# Altium footprint library ee_453_Schulz.PcbLib: 73 footprints (part 3 of 5)
Each footprint in its own frame and in the unit in brackets; x right, y up, seen from the top. Pads: shape width x height; smd on the part's side, far side on the other; paste and mask are expansions set on the pad; w line width, h text height; cw(c..) or ccw(c..) is an arc to the next point about the centre after c.
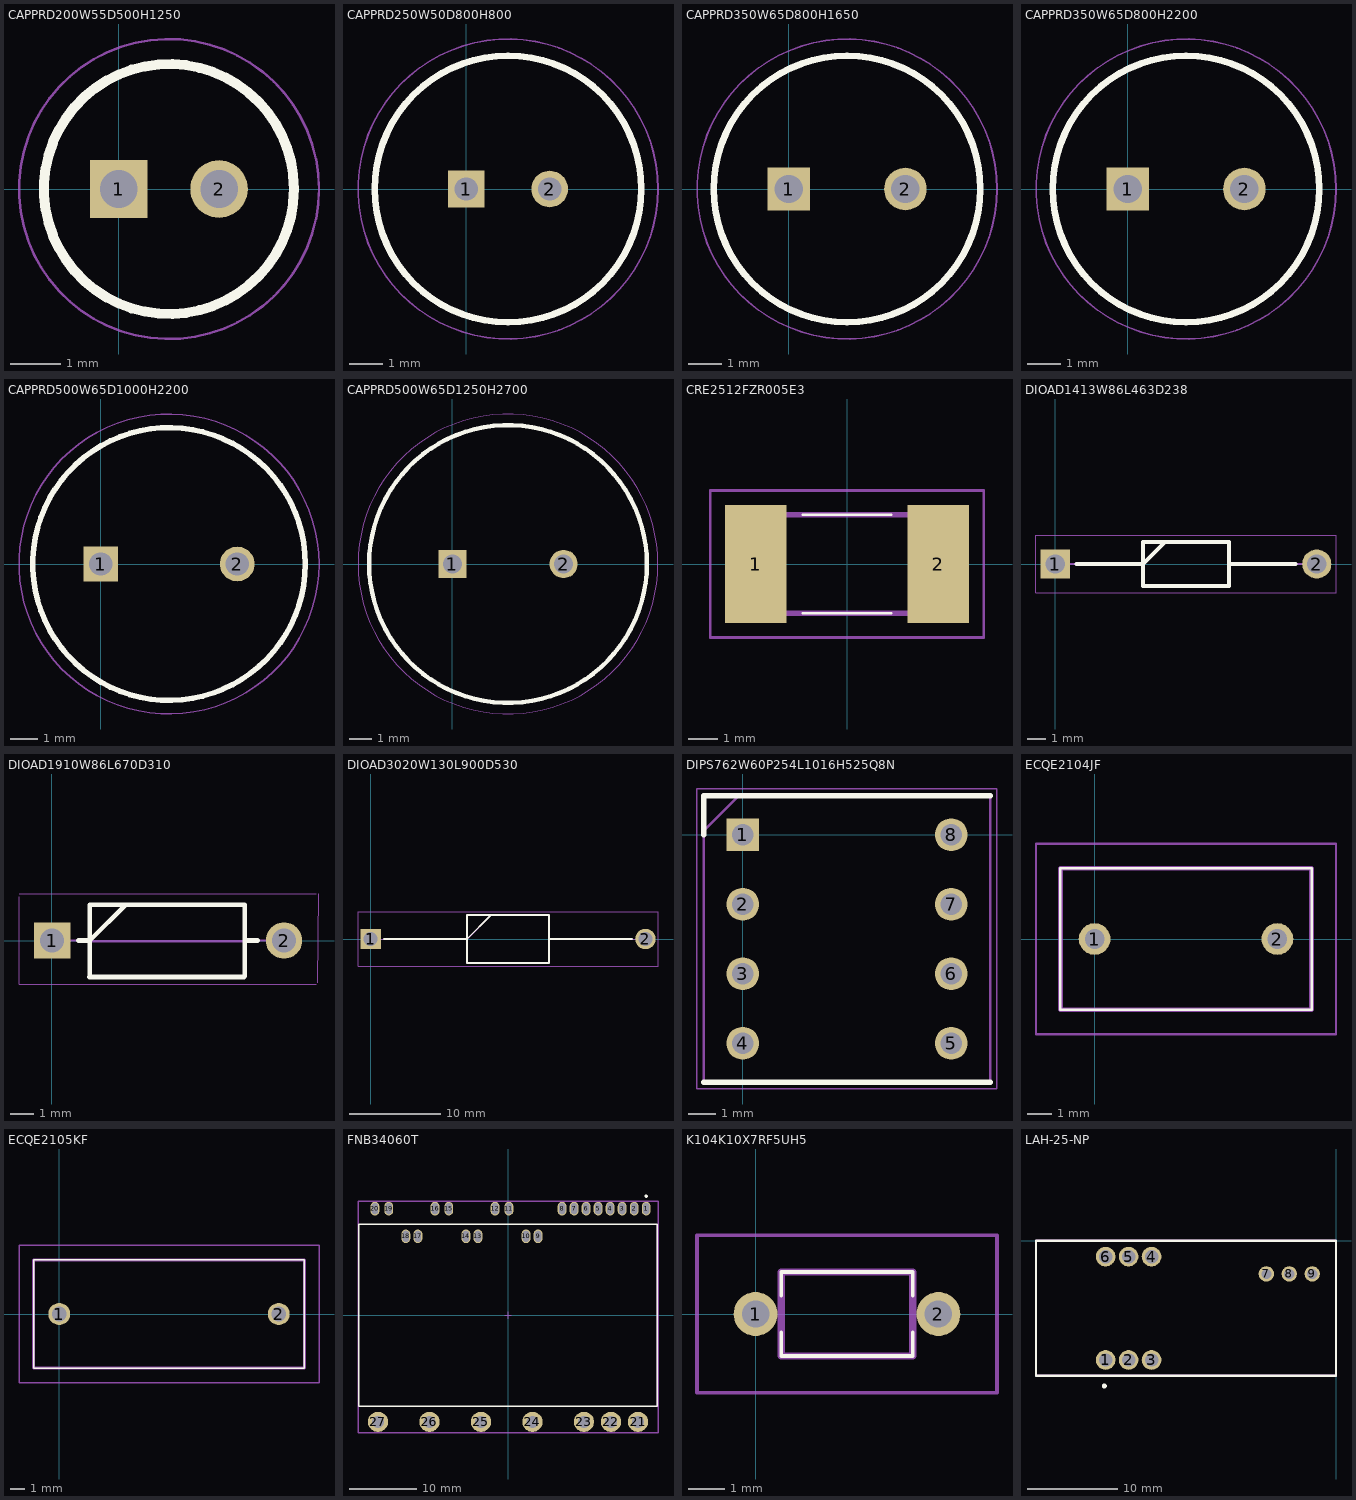
[diagram p2: the footprints below, top view; thin cyan lines are the x and y axes]

## CAPPRD200W55D500H1250 [mm]
pads (2):
  rect 1.15x1.15 hole 0.75: 1(0,0)
  round 1.15 hole 0.75: 2(2,0)
Top Overlay:
  circle w0.2: c1,0 r2.5
Mechanical 13:
  circle w0.1: c1,0 r2.5
Mechanical 15:
  circle w0.05: c1,0 r3
3D body "EEU-FS1H270B.stp": height 12.5, standoff -10, extent -1.75,-2.75 3.75,2.75

## CAPPRD250W50D800H800 [mm]
pads (2):
  rect 1.1x1.1 hole 0.7: 1(0,0)
  round 1.1 hole 0.7: 2(2.5,0)
Top Overlay:
  circle w0.2: c1.25,0 r4
Mechanical 13:
  circle w0.1: c1.25,0 r4
Mechanical 15:
  circle w0.05: c1.25,0 r4.5
3D body "ECE-A1AKA220I.stp": height 8, standoff -10, extent -3,-4.25 5.5,4.25

## CAPPRD350W65D800H1650 [mm]
pads (2):
  rect 1.275x1.275 hole 0.85: 1(0,0)
  round 1.275 hole 0.85: 2(3.5,0)
Top Overlay:
  circle w0.2: c1.75,0 r4
Mechanical 13:
  circle w0.1: c1.75,0 r4
Mechanical 15:
  circle w0.05: c1.75,0 r4.5
3D body "EEU-FS2A470.stp": height 16.5, standoff -10, extent -2.5,-4.25 6,4.25

## CAPPRD350W65D800H2200 [mm]
pads (2):
  rect 1.275x1.275 hole 0.85: 1(0,0)
  round 1.275 hole 0.85: 2(3.5,0)
Top Overlay:
  circle w0.2: c1.75,0 r4
Mechanical 13:
  circle w0.1: c1.75,0 r4
Mechanical 15:
  circle w0.05: c1.75,0 r4.5
3D body "EEU-FS1H221L.stp": height 22, standoff -10, extent -2.5,-4.25 6,4.25

## CAPPRD500W65D1000H2200 [mm]
pads (2):
  rect 1.275x1.275 hole 0.85: 1(0,0)
  round 1.275 hole 0.85: 2(5,0)
Top Overlay:
  circle w0.2: c2.5,0 r5
Mechanical 13:
  circle w0.1: c2.5,0 r5
Mechanical 15:
  circle w0.05: c2.5,0 r5.5
3D body "EEU-FR2A101.stp": height 22, standoff -10, extent -2.75,-5.247 7.75,5.247

## CAPPRD500W65D1250H2700 [mm]
pads (2):
  rect 1.275x1.275 hole 0.85: 1(0,0)
  round 1.275 hole 0.85: 2(5,0)
Top Overlay:
  circle w0.2: c2.5,0 r6.25
Mechanical 13:
  circle w0.1: c2.5,0 r6.25
Mechanical 15:
  circle w0.05: c2.5,0 r6.75
3D body "EEU-FS2A221.stp": height 27, standoff -10, extent -4,-6.5 9,6.5

## CRE2512FZR005E3 [mm]
pads (2):
  rect 2.1x4 smd: 1(-3.1,0) 2(3.1,0)
Top Overlay:
  lines w0.1: -1.5,-1.675 1.5,-1.675 ; -1.5,1.675 1.5,1.675
Mechanical 13:
  lines w0.2: -3.225,-1.675 3.225,-1.675 3.225,1.675 -3.225,1.675 -3.225,-1.675
Mechanical 15:
  lines w0.1: -4.65,-2.5 4.65,-2.5 4.65,2.5 -4.65,2.5 -4.65,-2.5

## DIOAD1413W86L463D238 [mm]
pads (2):
  rect 1.575x1.575 hole 1.05: 1(0,0)
  round 1.575 hole 1.05: 2(14.1,0)
Top Overlay:
  lines w0.2: 1.138,0 4.735,0 5.922,1.188 ; 9.365,0 12.962,0 ; 4.735,-1.188 9.365,-1.188 9.365,1.188 4.735,1.188 4.735,-1.188
Mechanical 13:
  lines w0.1: 0,0 4.735,0 5.923,1.188 ; 9.365,0 14.1,0 ; 4.735,-1.187 9.365,-1.187 9.365,1.188 4.735,1.188 4.735,-1.187
Mechanical 15:
  lines w0.05: -1.038,-1.537 15.137,-1.537 15.137,1.538 -1.038,1.538 -1.038,-1.537
3D body "1N4003.stp": height 2.71, standoff -2.72, extent -0.427,-1.357 14.56,1.357

## DIOAD1910W86L670D310 [mm]
pads (2):
  rect 1.575x1.575 hole 1.05: 1(0.011,0)
  round 1.575 hole 1.05: 2(10.044,0)
Top Overlay:
  lines w0.2: 1.154,0 1.639,0 3.189,1.55 ; 1.628,-1.576 8.328,-1.576 ; 1.639,-1.55 1.639,1.55 8.339,1.55 8.339,-1.55 ; 8.339,0 8.901,0
Mechanical 13:
  lines w0.1: 0.011,0 1.639,0 3.189,1.55 ; 1.628,-0.026 3.303,-0.026 6.653,-0.026 8.328,-0.026 ; 1.639,-1.55 1.639,1.55 8.339,1.55 8.339,-1.55 ; 8.339,0 10.044,0
Mechanical 15:
  lines w0.05: -1.419,1.9 -1.419,-1.9 11.435,-1.9 ; -1.408,2.027 11.43,2.032 ; 11.513,-1.822 11.557,2.032
3D body: height 0.25, standoff 0, extent -1.259,-1.786 11.314,1.778

## DIOAD3020W130L900D530 [mm]
pads (2):
  rect 2.25x2.25 hole 1.5: 1(0,0)
  round 2.25 hole 1.5: 2(30.2,0)
Top Overlay:
  lines w0.2: 1.475,0 10.6,0 13.25,2.65 ; 19.6,0 28.725,0 ; 10.6,-2.65 19.6,-2.65 19.6,2.65 10.6,2.65 10.6,-2.65
Mechanical 13:
  lines w0.1: 0,0 10.6,0 13.25,2.65 ; 19.6,0 30.2,0 ; 10.6,-2.65 19.6,-2.65 19.6,2.65 10.6,2.65 10.6,-2.65
Mechanical 15:
  lines w0.05: -1.375,-3 31.575,-3 31.575,3 -1.375,3 -1.375,-3
3D body "SR310_A0G.stp": height 5.6, standoff -5.6, extent -0.645,-2.797 30.85,2.797

## DIPS762W60P254L1016H525Q8N [mm]
pads (8):
  rect 1.2x1.2 hole 0.8: 1(0,0)
  round 1.2 hole 0.8: 2(0,-2.54) 3(0,-5.08) 4(0,-7.62) 5(7.62,-7.62) 6(7.62,-5.08) 7(7.62,-2.54) 8(7.62,0)
Top Overlay:
  lines w0.2: -1.42,-9.04 9.04,-9.04 ; -1.42,0 -1.42,1.42 9.04,1.42
Mechanical 13:
  lines w0.1: -1.42,0.15 -0.15,1.42 ; -1.42,-9.04 -1.42,1.42 9.04,1.42 9.04,-9.04 -1.42,-9.04
Mechanical 15:
  lines w0.05: -1.67,-9.29 -1.67,1.67 9.29,1.67 9.29,-9.29 -1.67,-9.29

## ECQE2104JF [mm]
pads (2):
  round 1.3 hole 0.8: 1(0,0) 2(7.5,0)
Top Overlay:
  lines w0.1: -1.4,-2.9 -1.4,2.9 8.9,2.9 8.9,-2.9 -1.4,-2.9
Mechanical 13:
  lines w0.2: -1.4,-2.9 -1.4,2.9 8.9,2.9 8.9,-2.9 -1.4,-2.9
Mechanical 15:
  lines w0.1: -2.4,-3.9 -2.4,3.9 9.9,3.9 9.9,-3.9 -2.4,-3.9
3D body "ECQ-E2104JF.stp": height 13.5, standoff -5, extent -1.4,-2.9 8.9,2.9

## ECQE2105KF [mm]
pads (2):
  round 1.5 hole 1: 1(0,0) 2(15,0)
Top Overlay:
  lines w0.1: -1.75,-3.7 -1.75,3.7 16.75,3.7 16.75,-3.7 -1.75,-3.7
Mechanical 13:
  lines w0.2: -1.75,-3.7 -1.75,3.7 16.75,3.7 16.75,-3.7 -1.75,-3.7
Mechanical 15:
  lines w0.1: -2.75,-4.7 -2.75,4.7 17.75,4.7 17.75,-4.7 -2.75,-4.7
3D body "ECQ-E2105KF.stp": height 15.1, standoff -5, extent -1.75,-3.7 16.75,3.7

## FNB34060T [mm]
pads (27):
  oval 1.3x2 hole 1.6 slot 0.9 at 0 deg paste-1000 mask+0: 1(20.447,15.78) 2(18.669,15.78) 3(16.891,15.78) 4(15.113,15.78) 5(13.335,15.78) 6(11.557,15.78) 7(9.779,15.78) 8(8.001,15.78) 9(4.445,11.68) 10(2.667,11.68) 11(0.136,15.78) 12(-1.914,15.78) 13(-4.445,11.68) 14(-6.223,11.68) 15(-8.754,15.78) 16(-10.804,15.78) 17(-13.335,11.68) 18(-15.113,11.68) 19(-17.644,15.78) 20(-19.694,15.78)
  round 3 hole 1.8 paste-1000 mask+0: 21(19.24,-15.78) 22(15.24,-15.78) 23(11.24,-15.78) 24(3.62,-15.78) 25(-4,-15.78) 26(-11.62,-15.78) 27(-19.24,-15.78)
Top Overlay:
  circle w0.25: c20.447,17.63 r0.125
  lines w0.2: -22.1,-13.5 -22.1,13.5 22.1,13.5 22.1,-13.5 -22.1,-13.5
Mechanical 10:
  lines w0.2: -22.2,-17.38 -22.2,16.88 22.2,16.88 22.2,-17.38 -22.2,-17.38
  text ".Designator" at 0,-0.25 h1
Mechanical 12:
  lines w0.15: -22.1,-13.5 -22.1,13.5 22.1,13.5 22.1,-13.5 -22.1,-13.5
Mechanical 15:
  lines w0.1: -0.5,0 0.5,0 ; 0,-0.5 0,0.5
  lines w0.2: -22.2,-17.38 -22.2,16.88 22.2,16.88 22.2,-17.38 -22.2,-17.38
3D body "FNB34060T.STEP": height 5.61, standoff -2.59, extent -21.961,-16.101 21.968,16.382

## K104K10X7RF5UH5 [mm]
pads (2):
  round 1.2 hole 0.75: 1(0,0) 2(5,0)
Top Overlay:
  lines w0.1: 0.7,-0.5 0.7,-1.15 4.3,-1.15 4.3,-0.5 ; 0.7,0.5 0.7,1.15 4.3,1.15 4.3,0.5
Mechanical 13:
  lines w0.2: 0.7,-1.15 0.7,1.15 4.3,1.15 4.3,-1.15 0.7,-1.15
Mechanical 15:
  lines w0.1: -1.6,-2.15 -1.6,2.15 6.6,2.15 6.6,-2.15 -1.6,-2.15
3D body "K104K10X7RF5UH5.stp": height 6.3, standoff -5, extent -0.273,-1.15 5.275,1.15

## LAH-25-NP [mm]
pads (9):
  round 2.18 hole 1.48: 1(-25.49,-13.19) 2(-22.95,-13.19) 3(-20.41,-13.19) 4(-20.41,-1.76) 5(-22.95,-1.76) 6(-25.49,-1.76)
  round 1.7 hole 1.12: 7(-7.71,-3.665) 8(-5.17,-3.665) 9(-2.63,-3.665)
Top Overlay:
  circle w0.254: c-25.635,-16.072 r0.14
  lines w0.254: -33.2,-14.93 0,-14.93 0,0 -33.2,0 -33.2,-14.93
Mechanical 13:
  lines w0.254: -33.2,-14.93 -33.2,0 0,0 0,-14.93 -33.2,-14.93